# Altium footprint library WS2812.PcbLib: 1 footprints
Each footprint in its own frame and in the unit in brackets; x right, y up, seen from the top. Pads: shape width x height; smd on the part's side, far side on the other; paste and mask are expansions set on the pad; w line width, h text height; cw(c..) or ccw(c..) is an arc to the next point about the centre after c.
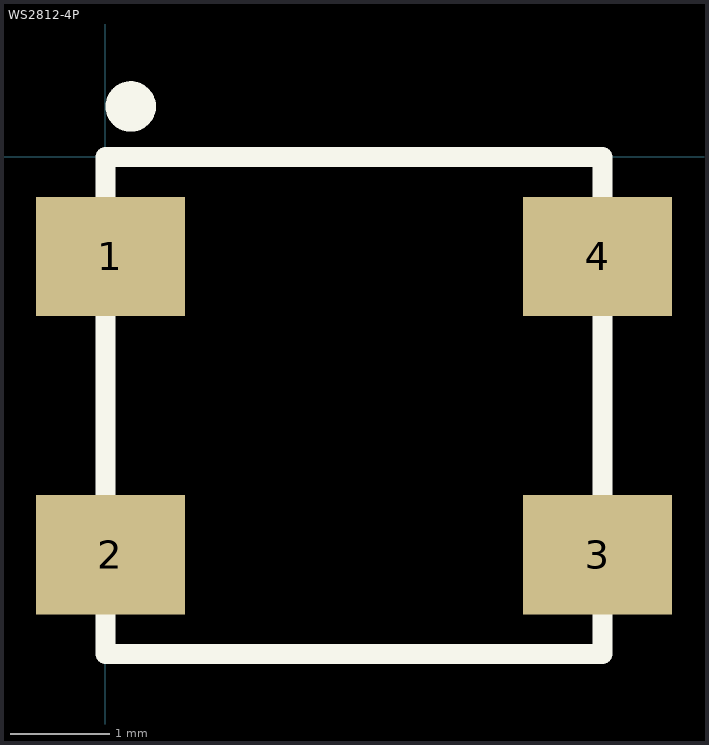
[diagram p0: the footprint, top view; thin cyan lines are the x and y axes]

## WS2812-4P [mm]
pads (4):
  rect 1.5x1.2 smd: 1(0.05,-1) 2(0.05,-4) 3(4.95,-4) 4(4.95,-1)
Top Overlay:
  circle w0.254: c0.254,0.508 r0.127
  lines w0.2: 0,-5 5,-5 5,0 0,0 0,-5